# EAGLE library part MAX5033* (library netnode)
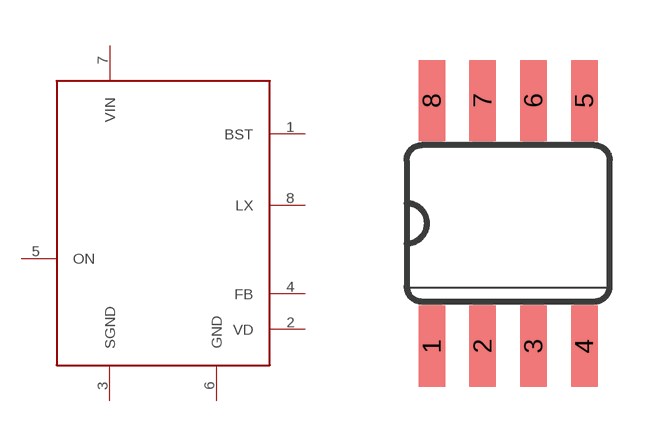
[diagram p4: symbol with the pads of SO08; footprint SO08]

Designator prefix SO

## MAX5033  [SO08]
1  BST  out
2  VD  out
3  SGND  pwr
4  FB  in
5  ON  in
6  GND  pwr
7  VIN  pwr
8  LX  out

## Footprint SO08 (pad centres in mm)
Small Outline package 8 150 mil
smd 0.66 x 2.032: 1 -1.905,-3.073; 2 -0.635,-3.073; 3 0.635,-3.073; 4 1.905,-3.073; 5 1.905,3.073; 6 0.635,3.073; 7 -0.635,3.073; 8 -1.905,3.073